# Altium footprint library EIA.SMD.PcbLib: 40 footprints (part 3 of 3)
Each footprint in its own frame and in the unit in brackets; x right, y up, seen from the top. Pads: shape width x height; smd on the part's side, far side on the other; paste and mask are expansions set on the pad; w line width, h text height; cw(c..) or ccw(c..) is an arc to the next point about the centre after c.
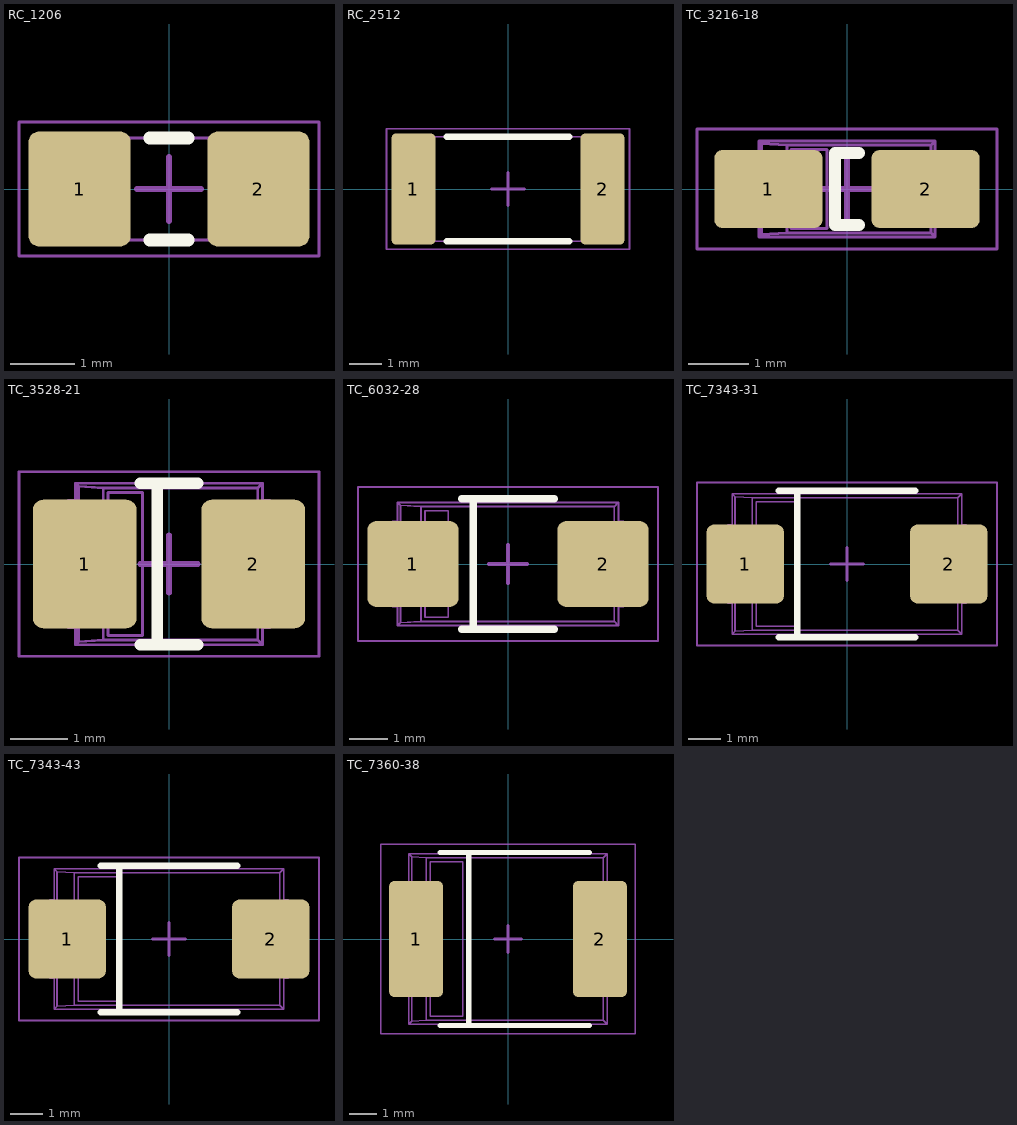
[diagram p2: the footprints below, top view; thin cyan lines are the x and y axes]

## RC_1206 [mm] "Chip Resistor, 2-Leads, Body 3.2x1.6mm, IPC Medium Density"
pads (2):
  rrect20% 1.6x1.8 smd: 1(-1.4,0) 2(1.4,0)
Top Overlay:
  lines w0.2: -0.3,-0.8 0.3,-0.8 ; -0.3,0.8 0.3,0.8
Mechanical 1:
  lines w0.05: -1.2,-0.8 -1.2,0.8 ; 1.2,-0.8 1.2,0.8 ; -1.6,-0.8 1.6,-0.8 1.6,0.8 -1.6,0.8 -1.6,-0.8
Mechanical 15:
  lines w0.05: -2.35,-1.05 -2.35,1.05 2.35,1.05 2.35,-1.05 -2.35,-1.05
  lines w0.1: -0.5,0 0.5,0 ; 0,-0.5 0,0.5
3D body "R_1206_3216Metric.step": height 0.55, standoff 0, extent -1.6,-0.8 1.6,0.8

## RC_2512 [mm] "Chip Resistor, 2-Leads, Body 6.3x3.2mm, IPC Medium Density"
height 0.8
pads (2):
  rrect20% 1.35x3.4 smd: 1(-2.9,0) 2(2.9,0)
Top Overlay:
  lines w0.2: -1.875,-1.6 1.875,-1.6 ; -1.875,1.6 1.875,1.6
Mechanical 1:
  lines w0.05: -2.55,-1.6 -2.55,1.6 ; 2.55,-1.6 2.55,1.6 ; -3.15,-1.6 -3.15,1.6 3.15,1.6 3.15,-1.6 -3.15,-1.6
Mechanical 15:
  lines w0.05: -3.725,-1.85 3.725,-1.85 3.725,1.85 -3.725,1.85 -3.725,-1.85
  lines w0.1: -0.5,0 0.5,0 ; 0,-0.5 0,0.5
3D body "R_2512_6332Metric.step": height 0.6, standoff 0, extent -3.15,-1.6 3.15,1.6

## TC_3216-18 [mm] "Tantalum Chip Capacitor, 2-Leads, Body 3.2x1.6mm, IPC Medium Density"
height 1.8
pads (2):
  rrect20% 1.8x1.3 smd: 1(-1.31,0) 2(1.31,0)
Top Overlay:
  lines w0.2: 0.2,-0.6 -0.2,-0.6 -0.2,0.6 0.2,0.6
Mechanical 1:
  lines w0.05: -1.6,-0.2 -1.47,-0.2 ; -1.6,0.2 -1.47,0.2 ; -1.513,-0.6 -1.513,-0.2 ; -1.513,0.2 -1.513,0.6 ; -1.47,-0.6 -1.6,-0.6 -1.6,0.6 -1.47,0.6 ; 1.47,-0.6 1.6,-0.6 1.6,0.6 1.47,0.6 ; 1.513,-0.6 1.513,0.6 ; -1.47,-0.8 -1.47,0.8 ; -1.47,-0.8 1.47,-0.8 ; -1.47,-0.8 -1.428,-0.758 ; -1.47,0.8 1.47,0.8 ; -1.47,0.8 -1.428,0.758 ; -1.428,-0.758 -1.428,0.758 ; -1.428,-0.758 -1,-0.73 ; -1.428,0.758 -1,0.73 ; -1,-0.73 -1,0.73 ; -1,-0.73 1.4,-0.73 ; -1,0.73 1.4,0.73 ; 1.4,-0.73 1.47,-0.8 ; 1.4,-0.73 1.4,0.73 ; 1.4,0.73 1.47,0.8 ; 1.47,-0.8 1.47,0.8 ; -0.931,-0.661 -0.331,-0.661 -0.331,0.661 -0.931,0.661 -0.931,-0.661
Mechanical 15:
  lines w0.05: -2.5,-1 2.5,-1 2.5,1 -2.5,1 -2.5,-1
  lines w0.1: -0.5,0 0.5,0 ; 0,-0.5 0,0.5
3D body "CP_EIA-3216-18_Kemet-A.step": height 1.8, standoff 0, extent -1.6,-0.8 1.6,0.8

## TC_3528-21 [mm] "Tantalum Chip Capacitor, 2-Leads, Body 3.5x2.8mm, IPC Medium Density"
height 2.1
pads (2):
  rrect20% 1.8x2.23 smd: 1(-1.46,0) 2(1.46,0)
Top Overlay:
  lines w0.2: -0.5,-1.4 0.5,-1.4 ; -0.5,1.4 0.5,1.4 ; -0.2,-1.4 -0.2,1.4
Mechanical 1:
  lines w0.05: -1.75,-0.5 -1.62,-0.5 ; -1.75,0.5 -1.62,0.5 ; -1.663,-1.1 -1.663,-0.5 ; -1.663,0.5 -1.663,1.1 ; -1.62,-1.1 -1.75,-1.1 -1.75,1.1 -1.62,1.1 ; 1.62,-1.1 1.75,-1.1 1.75,1.1 1.62,1.1 ; 1.663,-1.1 1.663,1.1 ; -1.62,-1.4 1.62,-1.4 ; -1.62,-1.4 -1.567,-1.347 ; -1.62,-1.4 -1.62,1.4 ; -1.62,1.4 1.62,1.4 ; -1.62,1.4 -1.567,1.347 ; -1.567,-1.347 -1.139,-1.319 ; -1.567,-1.347 -1.567,1.347 ; -1.567,1.347 -1.139,1.319 ; -1.139,-1.319 -1.139,1.319 ; -1.139,-1.319 1.539,-1.319 ; -1.139,1.319 1.539,1.319 ; 1.539,-1.319 1.539,1.319 ; 1.539,-1.319 1.62,-1.4 ; 1.539,1.319 1.62,1.4 ; 1.62,-1.4 1.62,1.4 ; -1.058,-1.238 -1.058,1.238 -0.458,1.238 -0.458,-1.238 -1.058,-1.238
Mechanical 15:
  lines w0.05: -2.6,-1.6 2.6,-1.6 2.6,1.6 -2.6,1.6 -2.6,-1.6
  lines w0.1: -0.5,0 0.5,0 ; 0,-0.5 0,0.5
3D body "CP_EIA-3528-21_Kemet-B.step": height 2.1, standoff 0, extent -1.75,-1.4 1.75,1.4

## TC_6032-28 [mm] "Tantalum Chip Capacitor, 2-Leads, Body 6.0x3.2mm, IPC Medium Density"
height 2.8
pads (2):
  rrect20% 2.37x2.23 smd: 1(-2.47,0) 2(2.47,0)
Top Overlay:
  lines w0.2: -1.2,-1.7 1.2,-1.7 ; -1.2,1.7 1.2,1.7 ; -0.9,-1.7 -0.9,1.7
Mechanical 1:
  lines w0.05: -3,-0.5 -2.87,-0.5 ; -3,0.5 -2.87,0.5 ; -2.913,-1.1 -2.913,-0.5 ; -2.913,0.5 -2.913,1.1 ; -2.87,-1.1 -3,-1.1 -3,1.1 -2.87,1.1 ; 2.87,-1.1 3,-1.1 3,1.1 2.87,1.1 ; 2.913,-1.1 2.913,1.1 ; -2.87,-1.6 2.87,-1.6 ; -2.87,-1.6 -2.797,-1.527 ; -2.87,-1.6 -2.87,1.6 ; -2.87,1.6 2.87,1.6 ; -2.87,1.6 -2.797,1.527 ; -2.797,-1.527 -2.262,-1.492 ; -2.797,-1.527 -2.797,1.527 ; -2.797,1.527 -2.262,1.492 ; -2.262,-1.492 2.762,-1.492 ; -2.262,-1.492 -2.262,1.492 ; -2.262,1.492 2.762,1.492 ; 2.762,-1.492 2.87,-1.6 ; 2.762,-1.492 2.762,1.492 ; 2.762,1.492 2.87,1.6 ; 2.87,-1.6 2.87,1.6 ; -2.154,-1.384 -1.554,-1.384 -1.554,1.384 -2.154,1.384 -2.154,-1.384
Mechanical 15:
  lines w0.05: -3.9,-2 3.9,-2 3.9,2 -3.9,2 -3.9,-2
  lines w0.1: -0.5,0 0.5,0 ; 0,-0.5 0,0.5
3D body "CP_EIA-6032-28_Kemet-C.step": height 2.8, standoff 0, extent -3,-1.6 3,1.6

## TC_7343-31 [mm] "Tantalum Chip Capacitor, 2-Leads, Body 7.3x4.3mm, IPC Medium Density"
height 3.1
pads (2):
  rrect20% 2.37x2.43 smd: 1(-3.12,0) 2(3.12,0)
Top Overlay:
  lines w0.2: -2.1,-2.25 2.1,-2.25 ; -2.1,2.25 2.1,2.25 ; -1.525,-2.2 -1.525,2.2
Mechanical 1:
  lines w0.05: -3.65,-0.5 -3.52,-0.5 ; -3.65,0.5 -3.52,0.5 ; -3.563,-1.2 -3.563,-0.5 ; -3.563,0.5 -3.563,1.2 ; -3.52,-1.2 -3.65,-1.2 -3.65,1.2 -3.52,1.2 ; 3.52,-1.2 3.65,-1.2 3.65,1.2 3.52,1.2 ; 3.563,-1.2 3.563,1.2 ; -3.52,-2.15 3.52,-2.15 ; -3.52,-2.15 -3.435,-2.065 ; -3.52,-2.15 -3.52,2.15 ; -3.52,2.15 3.52,2.15 ; -3.52,2.15 -3.435,2.065 ; -3.435,-2.065 -2.9,-2.03 ; -3.435,-2.065 -3.435,2.065 ; -3.435,2.065 -2.9,2.03 ; -2.9,-2.03 3.4,-2.03 ; -2.9,-2.03 -2.9,2.03 ; -2.9,2.03 3.4,2.03 ; 3.4,-2.03 3.4,2.03 ; 3.4,-2.03 3.52,-2.15 ; 3.4,2.03 3.52,2.15 ; 3.52,-2.15 3.52,2.15 ; -2.78,-1.91 -2.78,1.91 -1.58,1.91 -1.58,-1.91 -2.78,-1.91
Mechanical 15:
  lines w0.05: -4.6,-2.5 -4.6,2.5 4.6,2.5 4.6,-2.5 -4.6,-2.5
  lines w0.1: -0.5,0 0.5,0 ; 0,-0.5 0,0.5
3D body "CP_EIA-7343-31_Kemet-D.step": height 3.1, standoff 0, extent -3.65,-2.15 3.65,2.15

## TC_7343-43 [mm] "Tantalum Chip Capacitor, 2-Leads, Body 7.3x4.3mm, IPC Medium Density"
height 4.3
pads (2):
  rrect20% 2.37x2.43 smd: 1(-3.12,0) 2(3.12,0)
Top Overlay:
  lines w0.2: -2.1,-2.25 2.1,-2.25 ; -2.1,2.25 2.1,2.25 ; -1.525,-2.2 -1.525,2.2
Mechanical 1:
  lines w0.05: -3.65,-0.5 -3.52,-0.5 ; -3.65,0.5 -3.52,0.5 ; -3.563,-1.2 -3.563,-0.5 ; -3.563,0.5 -3.563,1.2 ; -3.52,-1.2 -3.65,-1.2 -3.65,1.2 -3.52,1.2 ; 3.52,-1.2 3.65,-1.2 3.65,1.2 3.52,1.2 ; 3.563,-1.2 3.563,1.2 ; -3.52,-2.15 3.52,-2.15 ; -3.52,-2.15 -3.435,-2.065 ; -3.52,-2.15 -3.52,2.15 ; -3.52,2.15 3.52,2.15 ; -3.52,2.15 -3.435,2.065 ; -3.435,-2.065 -2.9,-2.03 ; -3.435,-2.065 -3.435,2.065 ; -3.435,2.065 -2.9,2.03 ; -2.9,-2.03 3.4,-2.03 ; -2.9,-2.03 -2.9,2.03 ; -2.9,2.03 3.4,2.03 ; 3.4,-2.03 3.4,2.03 ; 3.4,-2.03 3.52,-2.15 ; 3.4,2.03 3.52,2.15 ; 3.52,-2.15 3.52,2.15 ; -2.78,-1.91 -2.78,1.91 -1.58,1.91 -1.58,-1.91 -2.78,-1.91
Mechanical 15:
  lines w0.05: -4.6,-2.5 -4.6,2.5 4.6,2.5 4.6,-2.5 -4.6,-2.5
  lines w0.1: -0.5,0 0.5,0 ; 0,-0.5 0,0.5
3D body "CP_EIA-7343-43_Kemet-X.step": height 4.3, standoff 0, extent -3.8,-2.3 3.8,2.3

## TC_7360-38 [mm] "Tantalum Chip Capacitor, 2-Leads, Body 7.3x6.0mm, IPC Medium Density"
height 2.9
pads (2):
  rrect20% 2x4.3 smd: 1(-3.4,0) 2(3.4,0)
Top Overlay:
  lines w0.2: -2.5,-3.2 3,-3.2 ; -2.5,3.2 3,3.2 ; -1.45,-3.2 -1.45,3.2
Mechanical 1:
  lines w0.05: -3.8,-1 -3.67,-1 ; -3.8,1 -3.67,1 ; -3.713,-2.05 -3.713,-1 ; -3.713,1 -3.713,2.05 ; -3.67,-2.05 -3.8,-2.05 -3.8,2.05 -3.67,2.05 ; 3.67,-2.05 3.8,-2.05 3.8,2.05 3.67,2.05 ; 3.713,-2.05 3.713,2.05 ; -3.67,-3.15 -3.67,3.15 ; -3.67,-3.15 -3.558,-3.038 ; -3.67,-3.15 3.67,-3.15 ; -3.67,3.15 -3.558,3.038 ; -3.67,3.15 3.67,3.15 ; -3.558,-3.038 -3.558,3.038 ; -3.558,-3.038 -3.023,-3.003 ; -3.558,3.038 -3.023,3.003 ; -3.023,-3.003 -3.023,3.003 ; -3.023,-3.003 3.523,-3.003 ; -3.023,3.003 3.523,3.003 ; 3.523,-3.003 3.523,3.003 ; 3.523,-3.003 3.67,-3.15 ; 3.523,3.003 3.67,3.15 ; 3.67,-3.15 3.67,3.15 ; -2.876,-2.856 -2.876,2.856 -1.676,2.856 -1.676,-2.856 -2.876,-2.856
Mechanical 15:
  lines w0.05: -4.7,-3.5 4.7,-3.5 4.7,3.5 -4.7,3.5 -4.7,-3.5
  lines w0.1: -0.5,0 0.5,0 ; 0,-0.5 0,0.5
3D body "CP_EIA-7360-38_Kemet-E.step": height 3.8, standoff 0, extent -3.8,-3.15 3.8,3.15